# Altium integrated library edison_connector_library.IntLib: 4 symbols
Pins are listed as number, name and electrical type; pins without a type are passive.

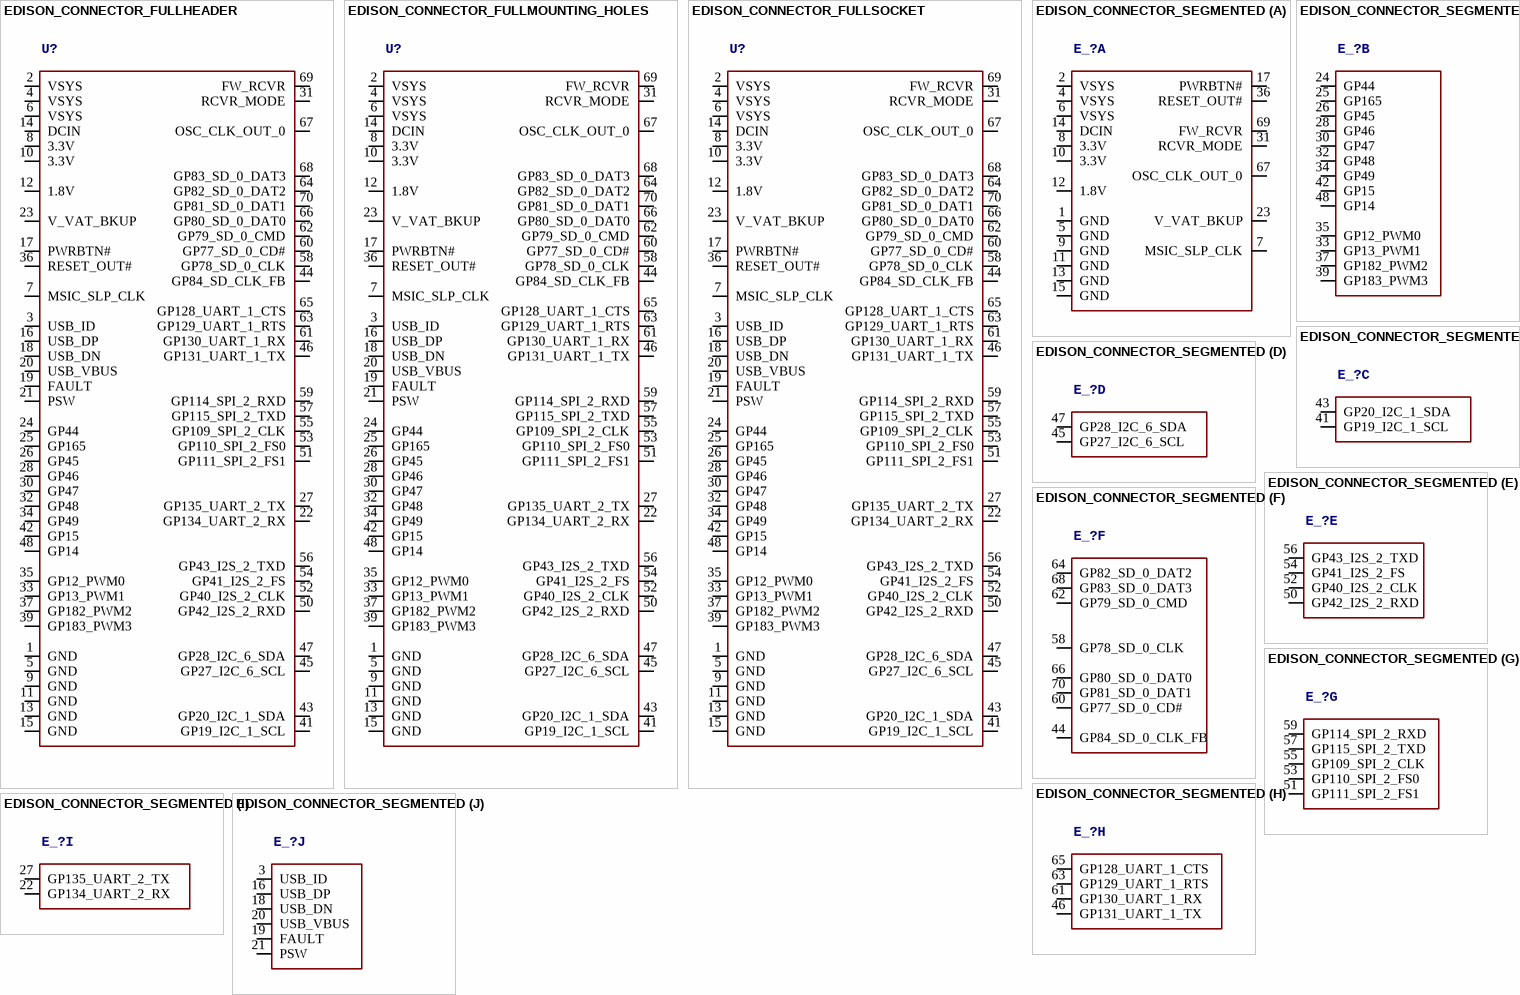
[diagram p0: symbols EDISON_CONNECTOR_FULLHEADER to EDISON_CONNECTOR_SEGMENTED]

## EDISON_CONNECTOR_FULLHEADER
designator U?
footprint DF40C-70DP-0.4(51)
pins: 1 GND, 2 VSYS, 3 USB_ID, 4 VSYS, 5 GND, 6 VSYS, 7 MSIC_SLP_CLK, 8 3.3V, 9 GND, 10 3.3V, 11 GND, 12 1.8V, 13 GND, 14 DCIN, 15 GND, 16 USB_DP, 17 PWRBTN#, 18 USB_DN, 19 FAULT, 20 USB_VBUS, 21 PSW, 22 GP134_UART_2_RX, 23 V_VAT_BKUP, 24 GP44, 25 GP165, 26 GP45, 27 GP135_UART_2_TX, 28 GP46, 30 GP47, 31 RCVR_MODE, 32 GP48, 33 GP13_PWM1, 34 GP49, 35 GP12_PWM0, 36 RESET_OUT#, 37 GP182_PWM2, 39 GP183_PWM3, 41 GP19_I2C_1_SCL, 42 GP15, 43 GP20_I2C_1_SDA, 44 GP84_SD_CLK_FB, 45 GP27_I2C_6_SCL, 46 GP131_UART_1_TX, 47 GP28_I2C_6_SDA, 48 GP14, 50 GP42_I2S_2_RXD, 51 GP111_SPI_2_FS1, 52 GP40_I2S_2_CLK, 53 GP110_SPI_2_FS0, 54 GP41_I2S_2_FS, 55 GP109_SPI_2_CLK, 56 GP43_I2S_2_TXD, 57 GP115_SPI_2_TXD, 58 GP78_SD_0_CLK, 59 GP114_SPI_2_RXD, 60 GP77_SD_0_CD#, 61 GP130_UART_1_RX, 62 GP79_SD_0_CMD, 63 GP129_UART_1_RTS, 64 GP82_SD_0_DAT2, 65 GP128_UART_1_CTS, 66 GP80_SD_0_DAT0, 67 OSC_CLK_OUT_0, 68 GP83_SD_0_DAT3, 69 FW_RCVR, 70 GP81_SD_0_DAT1

## EDISON_CONNECTOR_FULLMOUNTING_HOLES
designator U?
footprint EDISON_DAUGHTER
pins: 1 GND, 2 VSYS, 3 USB_ID, 4 VSYS, 5 GND, 6 VSYS, 7 MSIC_SLP_CLK, 8 3.3V, 9 GND, 10 3.3V, 11 GND, 12 1.8V, 13 GND, 14 DCIN, 15 GND, 16 USB_DP, 17 PWRBTN#, 18 USB_DN, 19 FAULT, 20 USB_VBUS, 21 PSW, 22 GP134_UART_2_RX, 23 V_VAT_BKUP, 24 GP44, 25 GP165, 26 GP45, 27 GP135_UART_2_TX, 28 GP46, 30 GP47, 31 RCVR_MODE, 32 GP48, 33 GP13_PWM1, 34 GP49, 35 GP12_PWM0, 36 RESET_OUT#, 37 GP182_PWM2, 39 GP183_PWM3, 41 GP19_I2C_1_SCL, 42 GP15, 43 GP20_I2C_1_SDA, 44 GP84_SD_CLK_FB, 45 GP27_I2C_6_SCL, 46 GP131_UART_1_TX, 47 GP28_I2C_6_SDA, 48 GP14, 50 GP42_I2S_2_RXD, 51 GP111_SPI_2_FS1, 52 GP40_I2S_2_CLK, 53 GP110_SPI_2_FS0, 54 GP41_I2S_2_FS, 55 GP109_SPI_2_CLK, 56 GP43_I2S_2_TXD, 57 GP115_SPI_2_TXD, 58 GP78_SD_0_CLK, 59 GP114_SPI_2_RXD, 60 GP77_SD_0_CD#, 61 GP130_UART_1_RX, 62 GP79_SD_0_CMD, 63 GP129_UART_1_RTS, 64 GP82_SD_0_DAT2, 65 GP128_UART_1_CTS, 66 GP80_SD_0_DAT0, 67 OSC_CLK_OUT_0, 68 GP83_SD_0_DAT3, 69 FW_RCVR, 70 GP81_SD_0_DAT1

## EDISON_CONNECTOR_FULLSOCKET
designator U?
footprint DF40-XC-(X.X)-70DS-0.4V(51)
pins: 1 GND, 2 VSYS, 3 USB_ID, 4 VSYS, 5 GND, 6 VSYS, 7 MSIC_SLP_CLK, 8 3.3V, 9 GND, 10 3.3V, 11 GND, 12 1.8V, 13 GND, 14 DCIN, 15 GND, 16 USB_DP, 17 PWRBTN#, 18 USB_DN, 19 FAULT, 20 USB_VBUS, 21 PSW, 22 GP134_UART_2_RX, 23 V_VAT_BKUP, 24 GP44, 25 GP165, 26 GP45, 27 GP135_UART_2_TX, 28 GP46, 30 GP47, 31 RCVR_MODE, 32 GP48, 33 GP13_PWM1, 34 GP49, 35 GP12_PWM0, 36 RESET_OUT#, 37 GP182_PWM2, 39 GP183_PWM3, 41 GP19_I2C_1_SCL, 42 GP15, 43 GP20_I2C_1_SDA, 44 GP84_SD_CLK_FB, 45 GP27_I2C_6_SCL, 46 GP131_UART_1_TX, 47 GP28_I2C_6_SDA, 48 GP14, 50 GP42_I2S_2_RXD, 51 GP111_SPI_2_FS1, 52 GP40_I2S_2_CLK, 53 GP110_SPI_2_FS0, 54 GP41_I2S_2_FS, 55 GP109_SPI_2_CLK, 56 GP43_I2S_2_TXD, 57 GP115_SPI_2_TXD, 58 GP78_SD_0_CLK, 59 GP114_SPI_2_RXD, 60 GP77_SD_0_CD#, 61 GP130_UART_1_RX, 62 GP79_SD_0_CMD, 63 GP129_UART_1_RTS, 64 GP82_SD_0_DAT2, 65 GP128_UART_1_CTS, 66 GP80_SD_0_DAT0, 67 OSC_CLK_OUT_0, 68 GP83_SD_0_DAT3, 69 FW_RCVR, 70 GP81_SD_0_DAT1

## EDISON_CONNECTOR_SEGMENTED
designator E_?
footprint EDISON_DAUGHTER
part A pins: 1 GND, 2 VSYS, 4 VSYS, 5 GND, 6 VSYS, 7 MSIC_SLP_CLK, 8 3.3V, 9 GND, 10 3.3V, 11 GND, 12 1.8V, 13 GND, 14 DCIN, 15 GND, 17 PWRBTN#, 23 V_VAT_BKUP, 31 RCVR_MODE, 36 RESET_OUT#, 67 OSC_CLK_OUT_0, 69 FW_RCVR
part B pins: 24 GP44, 25 GP165, 26 GP45, 28 GP46, 30 GP47, 32 GP48, 33 GP13_PWM1, 34 GP49, 35 GP12_PWM0, 37 GP182_PWM2, 39 GP183_PWM3, 42 GP15, 48 GP14
part C pins: 41 GP19_I2C_1_SCL, 43 GP20_I2C_1_SDA
part D pins: 45 GP27_I2C_6_SCL, 47 GP28_I2C_6_SDA
part E pins: 50 GP42_I2S_2_RXD, 52 GP40_I2S_2_CLK, 54 GP41_I2S_2_FS, 56 GP43_I2S_2_TXD
part F pins: 44 GP84_SD_0_CLK_FB, 58 GP78_SD_0_CLK, 60 GP77_SD_0_CD#, 62 GP79_SD_0_CMD, 64 GP82_SD_0_DAT2, 66 GP80_SD_0_DAT0, 68 GP83_SD_0_DAT3, 70 GP81_SD_0_DAT1
part G pins: 51 GP111_SPI_2_FS1, 53 GP110_SPI_2_FS0, 55 GP109_SPI_2_CLK, 57 GP115_SPI_2_TXD, 59 GP114_SPI_2_RXD
part H pins: 46 GP131_UART_1_TX, 61 GP130_UART_1_RX, 63 GP129_UART_1_RTS, 65 GP128_UART_1_CTS
part I pins: 22 GP134_UART_2_RX, 27 GP135_UART_2_TX
part J pins: 3 USB_ID, 16 USB_DP, 18 USB_DN, 19 FAULT, 20 USB_VBUS, 21 PSW